# Altium footprint library NT-0.15mm.PcbLib: 1 footprints
Each footprint in its own frame and in the unit in brackets; x right, y up, seen from the top. Pads: shape width x height; smd on the part's side, far side on the other; paste and mask are expansions set on the pad; w line width, h text height; cw(c..) or ccw(c..) is an arc to the next point about the centre after c.
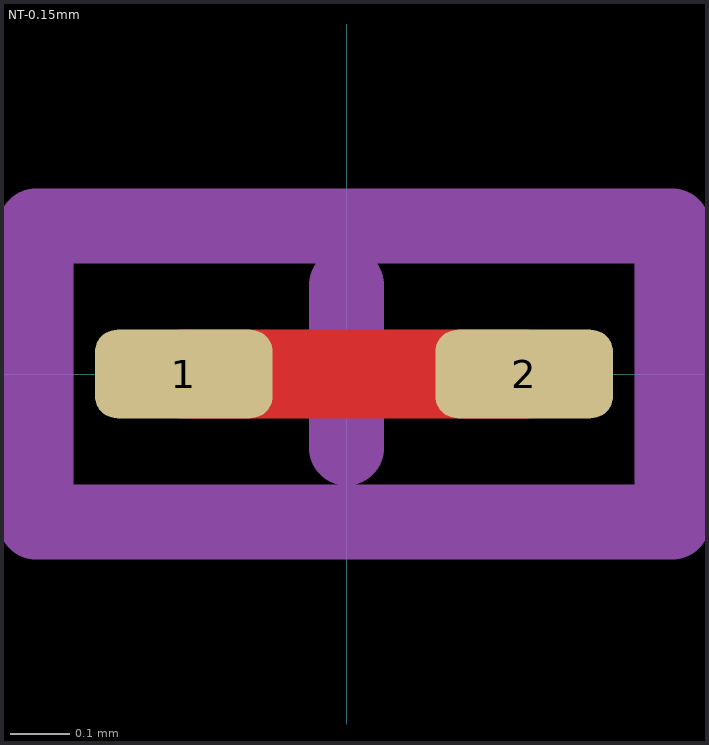
[diagram p0: the footprint, top view; thin cyan lines are the x and y axes]

## NT-0.15mm [mm] "NetTie 0.15mm"
pads (2):
  rrect50% 0.3x0.15 smd: 1(-0.275,0) 2(0.3,0)
Top Layer:
  lines w0.15: -0.275,0 0.3,0
Mechanical 13:
  lines w0.127: -0.525,-0.25 0.55,-0.25 0.55,0.25 -0.525,0.25 -0.525,-0.25
Mechanical 15:
  lines w0.127: -0.254,-0.005 0.254,-0.005 ; 0,-0.125 0,0.15 ; -0.525,-0.25 -0.525,0.25 0.55,0.25 0.55,-0.25 -0.525,-0.25
Mechanical 17:
  text "'.Designator'" at -1.143,-0.127 h0.2